# Altium footprint library PPPC101LGBN-RC.PcbLib: 1 footprints
Each footprint in its own frame and in the unit in brackets; x right, y up, seen from the top. Pads: shape width x height; smd on the part's side, far side on the other; paste and mask are expansions set on the pad; w line width, h text height; cw(c..) or ccw(c..) is an arc to the next point about the centre after c.
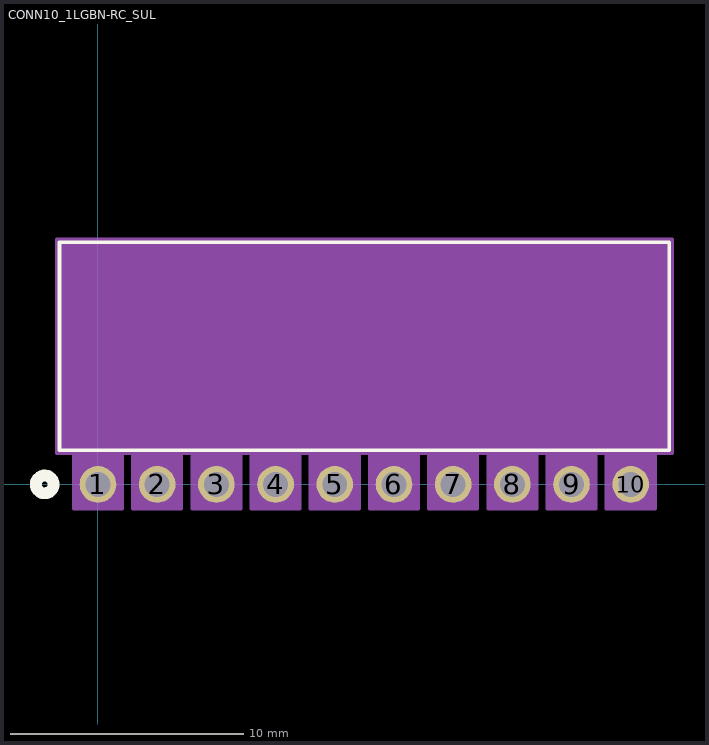
[diagram p0: the footprint, top view; thin cyan lines are the x and y axes]

## CONN10_1LGBN-RC_SUL [mil]
pads (10):
  round 62 / inner round 60 / far side round 62 hole 42 paste-99999 mask+0: 1(0,0) 2(100,0) 3(200,0) 4(300,0) 5(400,0) 6(500,0) 7(600,0) 8(700,0) 9(800,0) 10(900,0)
Top Overlay:
  circle w20: c-90,0 r15
  lines w6: -65,58 -65,409 965,409 965,58 -65,58
Bottom Overlay:
  circle w20: c-90,0 r15
Mechanical 13:
  circle w20: c0,75 r15
  lines w1: -60,63 -60,404 960,404 960,63 -60,63
Mechanical 15:
  region: 941,53 970,53 970,414 -70,414 -70,53 -41,53 -41,-41 41,-41 41,53 59,53 59,-41 141,-41 141,53 159,53 159,-41 241,-41 241,53 259,53 259,-41 341,-41 341,53 359,53 359,-41 441,-41 441,53 459,53 459,-41 541,-41 541,53 559,53 559,-41 641,-41 641,53 659,53 659,-41 741,-41 741,53 759,53 759,-41 841,-41 841,53 859,53 859,-41 941,-41
  lines w6: -70,53 -41,53 -41,-41 41,-41 41,53 59,53 59,-41 141,-41 141,53 159,53 159,-41 241,-41 241,53 259,53 259,-41 341,-41 341,53 359,53 359,-41 441,-41 441,53 459,53 459,-41 541,-41 541,53 559,53 559,-41 641,-41 641,53 659,53 659,-41 741,-41 741,53 759,53 759,-41 841,-41 841,53 859,53 859,-41 941,-41 941,53 970,53 970,414 -70,414 -70,53
3D body "PPPC101LGBN-RC.STEP": height 100, standoff -124.02, extent -60,-12.76 959.68,392.76